# EAGLE library part DWARF15 (library metratec_oem)
SMT ISO15693 RFID reader module, UFL external Antenna Connector, UART Interface and 8 GPIOs 5V/120mA supply
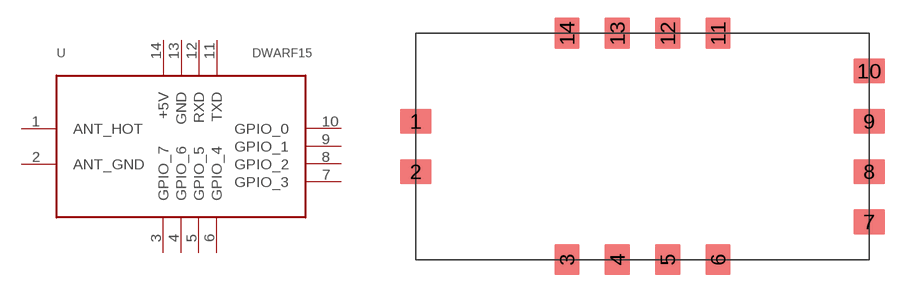
[diagram p3: symbol with the pads of DWARF15; footprint DWARF15]

Designator prefix -

## DWARF15  [DWARF15]
1  ANT_HOT
2  ANT_GND
3  GPIO_7
4  GPIO_6
5  GPIO_5
6  GPIO_4
7  GPIO_3
8  GPIO_2
9  GPIO_1
10  GPIO_0
11  TXD  out
12  RXD  in
13  GND
14  +5V

## Footprint DWARF15 (pad centres in mm)
smd 2.5 x 2: 1 0,2; 2 0,-2; 7 36,-6; 8 36,-2; 9 36,2; 10 36,6
smd 2 x 2.5: 3 12,-9; 4 16,-9; 5 20,-9; 6 24,-9; 11 24,9; 12 20,9; 13 16,9; 14 12,9